# Altium footprint library Multimeter.PcbLib: 28 footprints (part 2 of 2)
Each footprint in its own frame and in the unit in brackets; x right, y up, seen from the top. Pads: shape width x height; smd on the part's side, far side on the other; paste and mask are expansions set on the pad; w line width, h text height; cw(c..) or ccw(c..) is an arc to the next point about the centre after c.
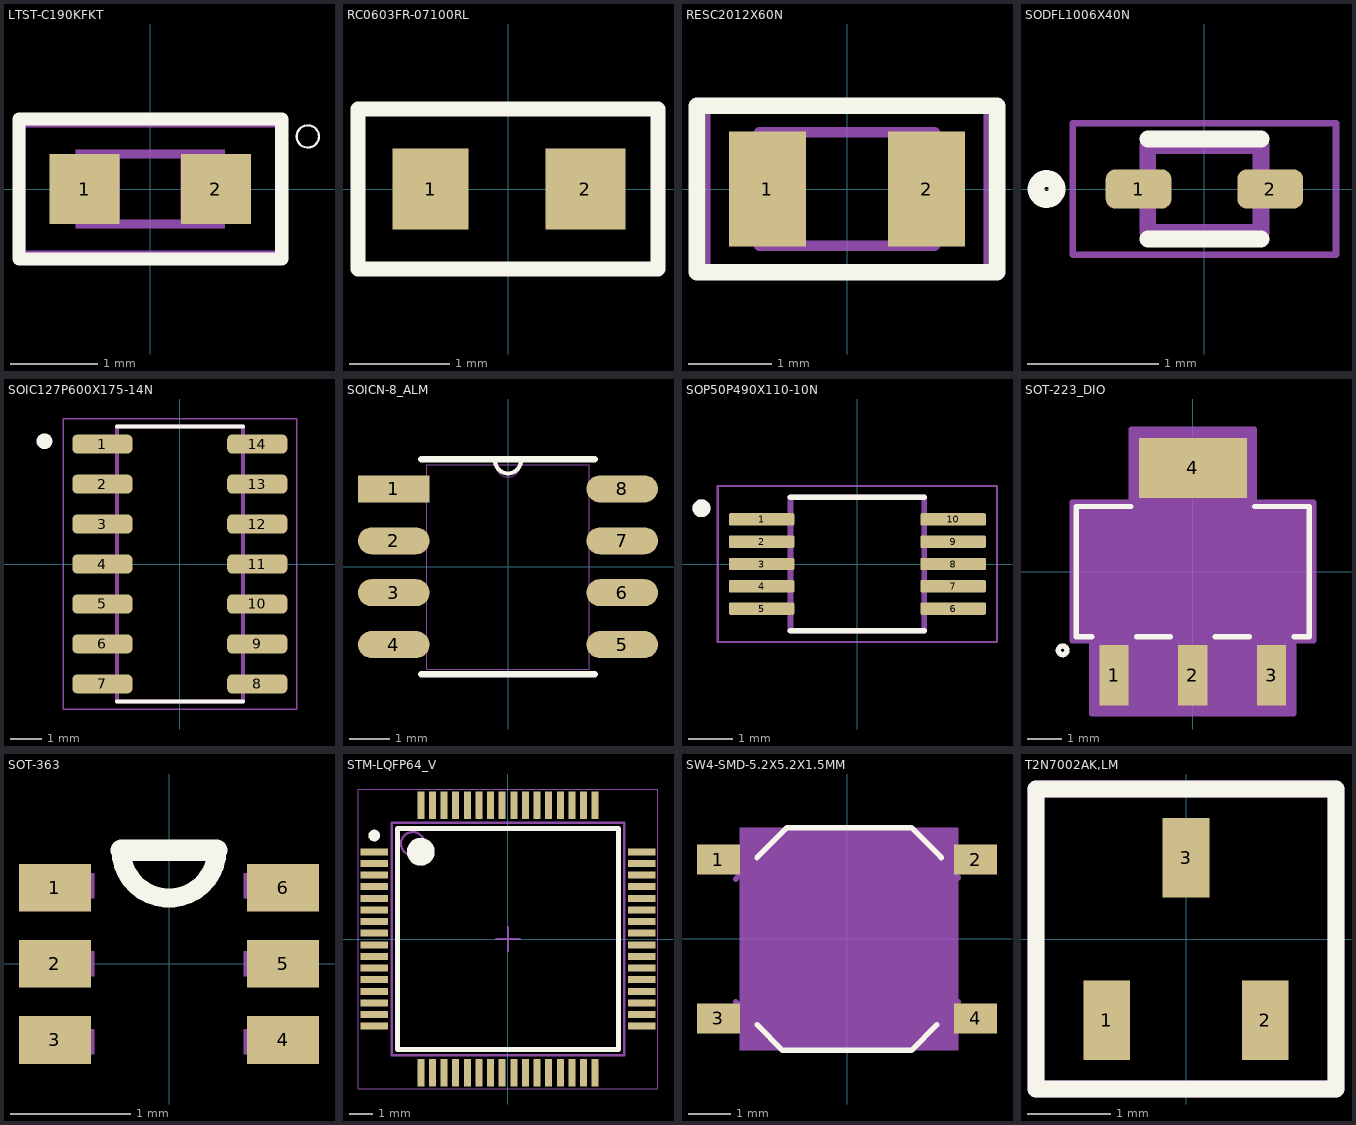
[diagram p1: the footprints below, top view; thin cyan lines are the x and y axes]

## LTST-C190KFKT [mm]
pads (2):
  rect 0.8x0.8 smd: 1(-0.75,0) 2(0.75,0)
Top Overlay:
  circle w0.025: c1.8,0.6 r0.127
  lines w0.152: -1.5,-0.8 -1.5,0.8 1.5,0.8 1.5,-0.8 -1.5,-0.8
Mechanical 1:
  circle w0.051: c-0.625,-0.35 r0.075
  region: 0.65,0.175 0.55,0.175 0.55,0.275 0.65,0.275
  region: 0.651,-0.275 0.55,-0.275 0.55,-0.176 0.651,-0.176
  region: 0.575,-0.275 0.35,-0.275 0.35,0.275 0.575,0.275
  region: 0.85,0.25 0.35,0.25 0.35,0.45 0.85,0.45
  region: 0.85,-0.45 0.35,-0.45 0.35,-0.25 0.85,-0.25
  region: -0.351,-0.451 -0.576,-0.451 -0.576,0.451 -0.351,0.451
  region: -0.55,0.25 -0.85,0.25 -0.85,0.45 -0.55,0.45
  region: -0.35,-0.451 -0.726,-0.451 -0.726,-0.4 -0.35,-0.4
  region: -0.55,-0.275 -0.6,-0.275 -0.6,-0.225 -0.55,-0.225
  region: -0.7,-0.451 -0.851,-0.451 -0.851,-0.25 -0.7,-0.25
  lines w0.051: 0.825,-0.275 cw(c0.825,0) 0.825,0.275
  lines w0.102: -0.8,-0.3 ccw(c-0.826,0) -0.8,0.3 ; -0.375,-0.4 0.35,-0.4 ; -0.35,0.4 0.35,0.4
Top Assembly:
  lines w0.05: -1.45,-0.725 -1.45,0.725 1.45,0.725 1.45,-0.725 -1.45,-0.725
3D body "step_temp.STEP": height 0.8, standoff 0, extent -0.8,-0.4 0.8,0.4

## RC0603FR-07100RL [mil]
pads (2):
  rect 30x32 smd paste+0 mask+3.94: 1(-30.5,0)
  rect 31.5x32 smd paste+0 mask+3.94: 2(30.5,0)
Top Overlay:
  lines w6: -59.06,-31.5 59.06,-31.5 59.06,31.5 -59.06,31.5 -59.06,-31.5
Top Assembly:
  lines w1.97: -59.06,-31.5 59.06,-31.5 59.06,31.5 -59.06,31.5 -59.06,-31.5
3D body "RC0603N_YAG.step": height 27.99, standoff 0, extent -31.5,-15.98 31.5,15.98

## RESC2012X60N [mm]
pads (2):
  rect 0.92x1.38 smd: 1(-0.955,0) 2(0.955,0)
Top Overlay:
  lines w0.2: -1.8,-1 1.8,-1 1.8,1 -1.8,1 -1.8,-1
Mechanical 13:
  lines w0.127: -1.05,-0.68 1.05,-0.68 1.05,0.68 -1.05,0.68 -1.05,-0.68
Mechanical 15:
  lines w0.05: -1.665,-0.94 1.665,-0.94 1.665,0.94 -1.665,0.94 -1.665,-0.94
3D body "RESC2012X60N.step": height 0.6, standoff 0, extent -1,-0.625 1,0.625

## SODFL1006X40N [mm]
pads (2):
  rrect50% 0.5x0.3 smd: 1(-0.5,0) 2(0.5,0)
Top Overlay:
  circle w0.127: c-1.2,0 r0.08
  lines w0.127: -0.43,-0.38 0.43,-0.38 ; -0.43,0.38 0.43,0.38
Mechanical 13:
  lines w0.127: -0.43,-0.33 -0.43,0.33 0.43,0.33 0.43,-0.33 -0.43,-0.33
Mechanical 15:
  lines w0.05: -1,-0.5 -1,0.5 1,0.5 1,-0.5 -1,-0.5
3D body "ESD9B5.0ST5G.STEP": height 0.4, standoff 0, extent -0.5,-0.3 0.5,0.3

## SOIC127P600X175-14N [mm]
pads (14):
  rrect50% 1.91x0.6 smd: 1(-2.46,3.81) 2(-2.46,2.54) 3(-2.46,1.27) 4(-2.46,0) 5(-2.46,-1.27) 6(-2.46,-2.54) 7(-2.46,-3.81) 8(2.46,-3.81) 9(2.46,-2.54) 10(2.46,-1.27) 11(2.46,0) 12(2.46,1.27) 13(2.46,2.54) 14(2.46,3.81)
Top Overlay:
  circle w0.3: c-4.3,3.9 r0.1
  lines w0.127: -2,-4.37 2,-4.37 ; -2,4.37 2,4.37
Mechanical 13:
  lines w0.127: -2,-4.37 -2,4.37 2,4.37 2,-4.37 -2,-4.37
Mechanical 15:
  lines w0.05: -3.71,-4.62 -3.71,4.62 3.71,4.62 3.71,-4.62 -3.71,-4.62
3D body "MCP2221A-I_SL.step": height 1.75, standoff 0, extent -3,-4.325 3,4.325

## SOICN-8_ALM [mil]
pads (8):
  rect 69x26 smd paste+0 mask+0: 1(-110,75)
  oval 69x26 smd paste+0 mask+0: 2(-110,25) 3(-110,-25) 4(-110,-75) 5(110,-75) 6(110,-25) 7(110,25) 8(110,75)
Top Overlay:
  lines w3.94: -12.45,102.36 ccw(c0,102.36) 12.45,102.36
  lines w6: -83.5,-103.5 83.5,-103.5 ; -83.5,103.5 83.5,103.5
Mechanical 13:
  lines w0: -12,98.5 ccw(c0,98.5) 12,98.5
  lines w1: -78.5,-98.5 78.5,-98.5 78.5,98.5 -78.5,98.5 -78.5,-98.5
3D body "SOICN-8_ALM.step": height 69.02, standoff 0, extent -130.71,-98.5 130.71,98.5

## SOP50P490X110-10N [mm]
pads (10):
  rrect25% 1.47x0.28 smd: 1(-2.15,1) 2(-2.15,0.5) 3(-2.15,0) 4(-2.15,-0.5) 5(-2.15,-1) 6(2.15,-1) 7(2.15,-0.5) 8(2.15,0) 9(2.15,0.5) 10(2.15,1)
Top Overlay:
  circle w0.2: c-3.5,1.25 r0.1
  lines w0.127: -1.5,-1.5 1.5,-1.5 ; -1.5,1.5 1.5,1.5
Mechanical 13:
  circle w0.2: c-3.5,1.25 r0.1
  lines w0.127: -1.5,-1.5 -1.5,1.5 1.5,1.5 1.5,-1.5 -1.5,-1.5
Mechanical 15:
  lines w0.05: -3.135,-1.75 -3.135,1.75 3.135,1.75 3.135,-1.75 -3.135,-1.75
3D body "ADS1115IDGSR.step": height 1.1, standoff 0, extent -2.45,-1.5 2.45,1.5

## SOT-223_DIO [mm]
pads (4):
  rect 0.851x1.761 smd paste+0 mask+0: 1(-2.3,-3.025) 2(0,-3.025) 3(2.3,-3.025)
  rect 3.151x1.761 smd paste+0 mask+0: 4(0,3.025)
Top Overlay:
  circle w0.152: c-3.8,-2.3 r0.127
  lines w0.152: -2.953,-1.902 -3.402,-1.902 -3.402,1.902 -1.803,1.902 ; -1.647,-1.902 -0.653,-1.902 ; 0.653,-1.902 1.647,-1.902 ; 1.803,1.902 3.402,1.902 3.402,-1.902 2.953,-1.902
Mechanical 13:
  circle w0: c-3.021,-1.521 r0.127
  lines w0.025: -3.275,-1.775 -3.275,1.775 3.275,1.775 3.275,-1.775 -3.275,-1.775 ; -2.7,-3.55 -1.9,-3.55 -1.9,-1.775 -2.7,-1.775 -2.7,-3.55 ; -1.55,1.775 -1.55,3.55 1.55,3.55 1.55,1.775 -1.55,1.775 ; -0.4,-3.55 0.4,-3.55 0.4,-1.775 -0.4,-1.775 -0.4,-3.55 ; 1.9,-3.55 2.7,-3.55 2.7,-1.775 1.9,-1.775 1.9,-3.55
Mechanical 15:
  region: -3.529,-2.029 -3.529,2.029 -1.804,2.029 -1.804,4.16 1.804,4.16 1.804,2.029 3.529,2.029 3.529,-2.029 2.954,-2.029 2.954,-4.16 -2.954,-4.16 -2.954,-2.029
  lines w0.152: -3.529,-2.029 -2.954,-2.029 -2.954,-4.16 2.954,-4.16 2.954,-2.029 3.529,-2.029 3.529,2.029 1.804,2.029 1.804,4.16 -1.804,4.16 -1.804,2.029 -3.529,2.029 -3.529,-2.029
3D body "SOT-223_DIO.step": height 1.65, standoff 0, extent -3.275,-3.55 3.275,3.55

## SOT-363 [mm]
pads (6):
  rect 0.6x0.4 smd: 1(-0.953,0.635) 2(-0.953,0) 3(-0.953,-0.635) 4(0.953,-0.635) 5(0.953,0) 6(0.953,0.635)
Top Overlay:
  lines w0.16: -0.4,0.948 ccw(c0,0.948) 0.4,0.948
  lines w0.18: -0.4,0.948 0.4,0.948
Mechanical 13:
  region: 1.05,0.546 0.626,0.546 0.626,0.755 1.05,0.755
  region: 1.05,-0.105 0.626,-0.105 0.626,0.105 1.05,0.105
  region: 1.05,-0.755 0.625,-0.755 0.625,-0.545 1.05,-0.545
  region: -0.625,-0.755 -1.05,-0.755 -1.05,-0.545 -0.625,-0.545
  region: -0.625,-0.105 -1.051,-0.105 -1.051,0.105 -0.625,0.105
  region: -0.625,0.546 -1.051,0.546 -1.051,0.755 -0.625,0.755
3D body "NUF2221W1T2G.step": height 1.1, standoff 0, extent -1.05,-1 1.05,1

## STM-LQFP64_V [mm] "Thin QFP, 64-Leads, Body 10x10mm, Pitch 0.5mm, ST Recommended"
height 1.6
pads (64):
  rect 1.2x0.3 smd: 1(-5.75,3.75) 2(-5.75,3.25) 3(-5.75,2.75) 4(-5.75,2.25) 5(-5.75,1.75) 6(-5.75,1.25) 7(-5.75,0.75) 8(-5.75,0.25) 9(-5.75,-0.25) 10(-5.75,-0.75) 11(-5.75,-1.25) 12(-5.75,-1.75) 13(-5.75,-2.25) 14(-5.75,-2.75) 15(-5.75,-3.25) 16(-5.75,-3.75) 33(5.75,-3.75) 34(5.75,-3.25) 35(5.75,-2.75) 36(5.75,-2.25) 37(5.75,-1.75) 38(5.75,-1.25) 39(5.75,-0.75) 40(5.75,-0.25) 41(5.75,0.25) 42(5.75,0.75) 43(5.75,1.25) 44(5.75,1.75) 45(5.75,2.25) 46(5.75,2.75) 47(5.75,3.25) 48(5.75,3.75)
  rect 0.3x1.2 smd: 17(-3.75,-5.75) 18(-3.25,-5.75) 19(-2.75,-5.75) 20(-2.25,-5.75) 21(-1.75,-5.75) 22(-1.25,-5.75) 23(-0.75,-5.75) 24(-0.25,-5.75) 25(0.25,-5.75) 26(0.75,-5.75) 27(1.25,-5.75) 28(1.75,-5.75) 29(2.25,-5.75) 30(2.75,-5.75) 31(3.25,-5.75) 32(3.75,-5.75) 49(3.75,5.75) 50(3.25,5.75) 51(2.75,5.75) 52(2.25,5.75) 53(1.75,5.75) 54(1.25,5.75) 55(0.75,5.75) 56(0.25,5.75) 57(-0.25,5.75) 58(-0.75,5.75) 59(-1.25,5.75) 60(-1.75,5.75) 61(-2.25,5.75) 62(-2.75,5.75) 63(-3.25,5.75) 64(-3.75,5.75)
Top Overlay:
  circle w0.25: c-5.75,4.45 r0.125
  circle w0.6: c-3.75,3.75 r0.3
  lines w0.2: -4.75,-4.75 -4.75,4.75 4.75,4.75 4.75,-4.75 -4.75,-4.75
Mechanical 13:
  circle w0.1: c-4.1,4.1 r0.5
  lines w0.1: -5,-5 -5,5 5,5 5,-5 -5,-5
Mechanical 15:
  lines w0.05: -6.45,-6.45 -6.45,6.45 6.45,6.45 6.45,-6.45 -6.45,-6.45
  lines w0.1: -0.5,0 0.5,0 ; 0,-0.5 0,0.5
3D body "TSQFP50P1200X1200X160-64L.step": height 1.6, standoff 0, extent -6,-6 6,6

## SW4-SMD-5.2X5.2X1.5MM [mm]
pads (4):
  rect 1x0.7 smd: 1(-3,1.85) 2(3,1.85) 3(-3,-1.85) 4(3,-1.85)
Top Overlay:
  lines w0.127: -2.1,-2 -1.5,-2.6 -1.46,-2.6 -1.1,-2.6 1.5,-2.6 2.1,-2 ; -2.1,1.9 -1.4,2.6 1.5,2.6 2.2,1.9
Mechanical 13:
  lines w0.127: -2.6,-1.46 -1.46,-2.6 ; -2.6,1.396 -1.396,2.6 ; 1.434,2.6 2.6,1.434 ; 1.469,-2.6 2.6,-1.469
Mechanical 15:
  region: 2.6,-2.601 -2.501,-2.601 -2.501,2.6 2.6,2.6
3D body "SKQGADE010.STEP": height 1.5, standoff 0, extent -3.2,-2.6 3.2,2.6

## T2N7002AK,LM [mm]
pads (3):
  rect 0.56x0.95 smd: 1(-0.95,-0.975) 2(0.95,-0.975) 3(0,0.975)
Top Overlay:
  lines w0.2: -1.8,-1.8 1.3,-1.8 1.8,-1.8 1.8,1.8 -0.65,1.8 -1.287,1.8 -1.362,1.8 -1.8,1.8 -1.8,-1.8
Top Assembly:
  lines w0.2: -1.8,-1.8 1.8,-1.8 1.8,1.8 -1.8,1.8 -1.8,-1.8
3D body "SOT23.step": height 0.95, standoff 0, extent -1.45,-1.2 1.45,1.2